# Altium footprint library PCB - POWER MODULE - GAPTEC 3S7B_3U SINGLE.PCBLIB: 1 footprints
Each footprint in its own frame and in the unit in brackets; x right, y up, seen from the top. Pads: shape width x height; smd on the part's side, far side on the other; paste and mask are expansions set on the pad; w line width, h text height; cw(c..) or ccw(c..) is an arc to the next point about the centre after c.
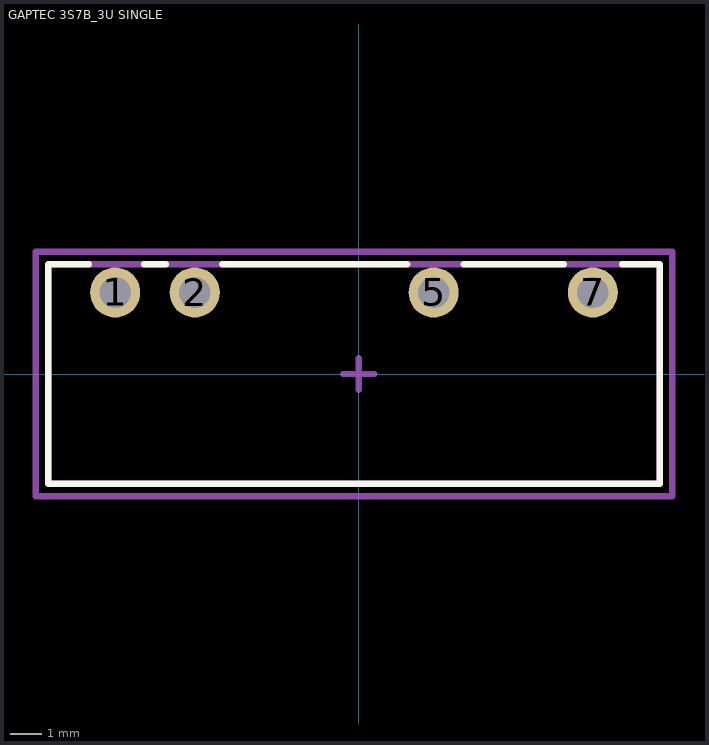
[diagram p0: the footprint, top view; thin cyan lines are the x and y axes]

## GAPTEC 3S7B_3U SINGLE [mm] "3W Single/Dual Output - Fixed Input - Isolated & Semi-regulated"
height 10
pads (4):
  round 1.6 hole 1: 1(-7.77,2.6) 2(-5.23,2.6) 5(2.39,2.6) 7(7.47,2.6)
Top Overlay:
  lines w0.2: -8.6,3.5 -9.9,3.5 -9.9,-3.5 9.6,-3.5 9.6,3.5 8.4,3.5 ; -6.85,3.5 -6.15,3.5 ; -4.35,3.5 1.55,3.5 ; 3.35,3.5 6.55,3.5
Top Assembly:
  lines w0.2: -0.5,0 0.5,0 ; 0,-0.5 0,0.5 ; -9.9,-3.5 -9.9,3.5 9.6,3.5 9.6,-3.5 -9.9,-3.5
Top Courtyard (Mech15):
  lines w0.2: -10.3,-3.9 -10.3,3.9 10,3.9 10,-3.9 -10.3,-3.9
3D body "GAPTEC 3S7B_3U.step": height 10, standoff -4.1, extent -9.95,-3.5 9.65,3.5